# EAGLE library part CONNECTOR16X1_49-64 (library harrison)
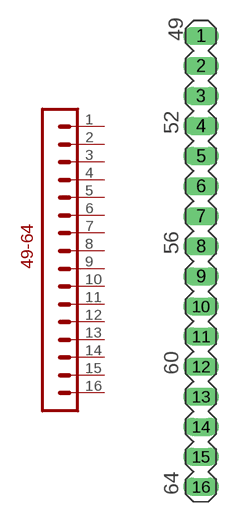
[diagram p16: symbol with the pads of CONNECTOR16X1_49-64; footprint CONNECTOR16X1_49-64]

Designator prefix -

## CONNECTOR16X1_49-64  [CONNECTOR16X1_49-64]
1  P$1  pas
2  P$2  pas
3  P$3  pas
4  P$4  pas
5  P$5  pas
6  P$6  pas
7  P$7  pas
8  P$8  pas
9  P$9  pas
10  P$10  pas
11  P$11  pas
12  P$12  pas
13  P$13  pas
14  P$14  pas
15  P$15  pas
16  P$16  pas

## Footprint CONNECTOR16X1_49-64 (pad centres in mm)
drill 1.016 long: 1 0,12.065; 2 0,9.525; 3 0,6.985; 4 0,4.445; 5 0,1.905; 6 0,-0.635; 7 0,-3.175; 8 0,-5.715; 9 0,-8.255; 10 0,-10.795; 11 0,-13.335; 12 0,-15.875; 13 0,-18.415; 14 0,-20.955; 15 0,-23.495; 16 0,-26.035